# Altium schematic symbol library Crystals.SchLib: 5 symbols
Pins are listed as number, name and electrical type; pins without a type are passive.

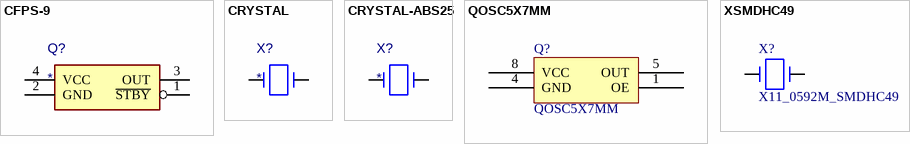
[diagram p0: symbols CFPS-9 to XSMDHC49]

## CFPS-9
designator Q?
Value: *; OtherParams: *
pins: 1 ~{STBY}, 2 GND, 3 OUT, 4 VCC

## CRYSTAL
designator X?
OtherParams: *; Value: *
pins: 1, 2

## CRYSTAL-ABS25
designator X?
Value: *; OtherParams: *
pins: 1, 4

## QOSC5X7MM
designator Q?
Value: QOSC5X7MM
footprint KXO_V97
pins: 1 OE, 4 GND, 5 OUT, 8 VCC

## XSMDHC49
designator X?, comment X11_0592M_SMDHC49
Value: X11_0592M_SMDHC49
footprint HC49/4HSMX
pins: 1, 2